# Altium integrated library Res-SMD_V2.IntLib: 2369 symbols (part 10 of 18)
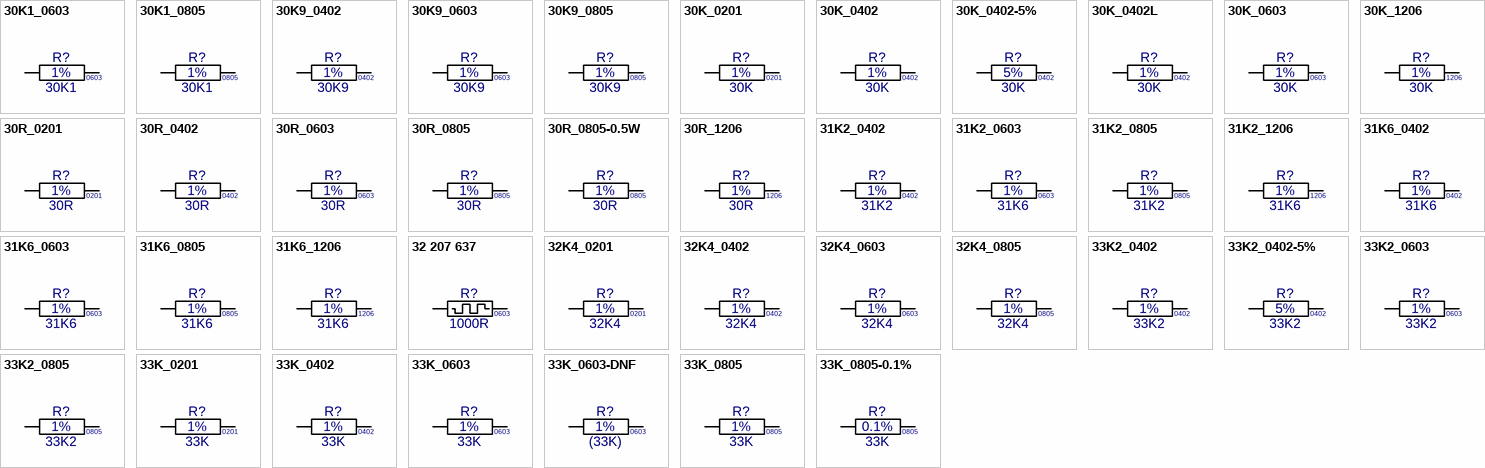
[diagram p68: symbols 30K1_0603 to 33K_0805-0.1%]

## 30K_1206
designator R?, comment value 30K  Tol: 1%  Text1: 1206  (hidden comment: 30K_R1206_1%)
Resistor Chip SMD; Manufacturer: Various; Part Number: 30K 1206 1%; Watt: 250mW; Package: RESC1206X71N; EDM-PN: *; Text2: *; Reutech PN: *; SAAB PN: *; DCE Part No: *
footprint RESC1206X71N (Chip Resistor, 1206, 2-Leads, Body 3.2x1.6mm, IPC Medium Density)
pins: 1, 2

## 30R_0201
designator R?, comment value 30R  Tol: 1%  Text1: 0201  (hidden comment: 30R_R0201_1%)
Resistor Chip SMD; Manufacturer: Various; Part Number: 30R 0201 1%; Watt: 31mW; Package: RESC0201X33N; EDM-PN: *; Text2: *; Reutech PN: *; SAAB PN: *; DCE Part No: *
footprint RESC0201X33N (Chip Resistor, 0201, 2-Leads, Body 0.6x0.3mm, IPC Medium Density)
pins: 1, 2

## 30R_0402
designator R?, comment value 30R  Tol: 1%  Text1: 0402  (hidden comment: 30R_R0402_1%)
Resistor Chip SMD; Manufacturer: Various; Part Number: 30R 0402 1%; Watt: 63mW; Package: RESC0402X40N; EDM-PN: *; Text2: *; Reutech PN: *; SAAB PN: *; DCE Part No: *
footprint RESC0402X40N (Chip Resistor, 0402, 2-Leads, Body 1.1x0.5mm, IPC Medium Density)
pins: 1, 2

## 30R_0603
designator R?, comment value 30R  Tol: 1%  Text1: 0603  (hidden comment: 30R_R0603_1%)
Resistor Chip SMD; Manufacturer: Various; Part Number: 30R 0603 1%; Watt: 100mW; Package: RESC0603X60N; EDM-PN: *; Text2: *; Reutech PN: *; SAAB PN: *; DCE Part No: *
footprint RESC0603X60N (Chip Resistor, 0603, 2-Leads, Body 1.6x0.8mm, IPC Medium Density)
pins: 1, 2

## 30R_0805
designator R?, comment value 30R  Tol: 1%  Text1: 0805  (hidden comment: 30R_R0805_1%)
Resistor Chip SMD; Manufacturer: Various; Part Number: 30R 0805 1%; Watt: 125mW; Package: RESC0805X65N; EDM-PN: *; Text2: *; Reutech PN: *; SAAB PN: *; DCE Part No: *
footprint RESC0805X65N (Chip Resistor, 0805, 2-Leads, Body 2.0x1.3mm, IPC Medium Density)
pins: 1, 2

## 30R_0805-0.5W
designator R?, comment value 30R  Tol: 1%  Text1: 0805  (hidden comment: 30R_R0805_1%-0.5W)
Resistor Chip SMD 0.5W; Manufacturer: Various; Part Number: 30R 0805 1% 0.5W; Watt: 500mW; Package: RESC0805X65N; EDM-PN: *; Text2: *; Reutech PN: *; SAAB PN: *; DCE Part No: *
footprint RESC0805X65N (Chip Resistor, 0805, 2-Leads, Body 2.0x1.3mm, IPC Medium Density)
pins: 1, 2

## 30R_1206
designator R?, comment value 30R  Tol: 1%  Text1: 1206  (hidden comment: 30R_R1206_1%)
Resistor Chip SMD; Manufacturer: Various; Part Number: 30R 1206 1%; Watt: 250mW; Package: RESC1206X71N; EDM-PN: *; Text2: *; Reutech PN: *; SAAB PN: *; DCE Part No: *
footprint RESC1206X71N (Chip Resistor, 1206, 2-Leads, Body 3.2x1.6mm, IPC Medium Density)
pins: 1, 2

## 31K2_0402
designator R?, comment value 31K2  Tol: 1%  Text1: 0402  (hidden comment: 31K2_R0402_1%)
Resistor Chip SMD; Manufacturer: Various; Part Number: 31K2 0402 1%; Watt: 63mW; Package: RESC0402X40N; EDM-PN: *; Text2: *; Reutech PN: *; SAAB PN: *; DCE Part No: *
footprint RESC0402X40N (Chip Resistor, 0402, 2-Leads, Body 1.1x0.5mm, IPC Medium Density)
pins: 1, 2

## 31K2_0603
designator R?, comment value 31K6  Tol: 1%  Text1: 0603  (hidden comment: 31K2_R0603_1%)
Resistor Chip SMD; Manufacturer: Various; Part Number: 31K6 0603 1%; Watt: 100mW; Package: RESC0603X60N; EDM-PN: *; Text2: *; Reutech PN: *; SAAB PN: *; DCE Part No: *
footprint RESC0603X60N (Chip Resistor, 0603, 2-Leads, Body 1.6x0.8mm, IPC Medium Density)
pins: 1, 2

## 31K2_0805
designator R?, comment value 31K2  Tol: 1%  Text1: 0805  (hidden comment: 31K2_R0805_1%)
Resistor Chip SMD; Manufacturer: Various; Part Number: 31K2 0805 1%; Watt: 125mW; Package: RESC0805X65N; EDM-PN: *; Text2: *; Reutech PN: *; SAAB PN: *; DCE Part No: *
footprint RESC0805X65N (Chip Resistor, 0805, 2-Leads, Body 2.0x1.3mm, IPC Medium Density)
pins: 1, 2

## 31K2_1206
designator R?, comment value 31K6  Tol: 1%  Text1: 1206  (hidden comment: 31K2_R1206_1%)
Resistor Chip SMD; Manufacturer: Various; Part Number: 31K6 1206 1%; Watt: 250mW; Package: RESC1206X71N; EDM-PN: *; Text2: *; Reutech PN: *; SAAB PN: *; DCE Part No: *
footprint RESC1206X71N (Chip Resistor, 1206, 2-Leads, Body 3.2x1.6mm, IPC Medium Density)
pins: 1, 2

## 31K6_0402
designator R?, comment value 31K6  Tol: 1%  Text1: 0402  (hidden comment: 31K6_R0402_1%)
Resistor Chip SMD; Manufacturer: Various; Part Number: 31K6 0402 1%; Watt: 63mW; Package: RESC0402X40N; EDM-PN: *; Text2: *; Reutech PN: *; SAAB PN: *; DCE Part No: *
footprint RESC0402X40N (Chip Resistor, 0402, 2-Leads, Body 1.1x0.5mm, IPC Medium Density)
pins: 1, 2

## 31K6_0603
designator R?, comment value 31K6  Tol: 1%  Text1: 0603  (hidden comment: 31K6_R0603_1%)
Resistor Chip SMD; Manufacturer: Various; Part Number: 31K6 0603 1%; Watt: 100mW; Package: RESC0603X60N; EDM-PN: *; Text2: *; Reutech PN: *; SAAB PN: *; DCE Part No: *
footprint RESC0603X60N (Chip Resistor, 0603, 2-Leads, Body 1.6x0.8mm, IPC Medium Density)
pins: 1, 2

## 31K6_0805
designator R?, comment value 31K6  Tol: 1%  Text1: 0805  (hidden comment: 31K6_R0805_1%)
Resistor Chip SMD; Manufacturer: Various; Part Number: 31K6 0805 1%; Watt: 125mW; Package: RESC0805X65N; EDM-PN: *; Text2: *; Reutech PN: *; SAAB PN: *; DCE Part No: *
footprint RESC0805X65N (Chip Resistor, 0805, 2-Leads, Body 2.0x1.3mm, IPC Medium Density)
pins: 1, 2

## 31K6_1206
designator R?, comment value 31K6  Tol: 1%  Text1: 1206  (hidden comment: 31K6_R1206_1%)
Resistor Chip SMD; Manufacturer: Various; Part Number: 31K6 1206 1%; Watt: 250mW; Package: RESC1206X71N; EDM-PN: *; Text2: *; Reutech PN: *; SAAB PN: *; DCE Part No: *
footprint RESC1206X71N (Chip Resistor, 1206, 2-Leads, Body 3.2x1.6mm, IPC Medium Density)
pins: 1, 2

## 32 207 637
designator R?  value 1000R  Text1: 0603  (hidden comment: 32 207 637)
Platinum Resistance Temperature Detector; Manufacturer: Heraeus; Watt: *; Part Number: 32 207 637; Package: SMD0603-TEMP; EDM-PN: *; Text2: *; Reutech PN: *; SAAB PN: *; Tol: *; DCE Part No: *
footprint SMD0603-TEMP (Chip Resistor, 0603, 2-Leads, Body 1.6x0.8mm, IPC Medium Density)
pins: 1, 2

## 32K4_0201
designator R?, comment value 32K4  Tol: 1%  Text1: 0201  (hidden comment: 32K4_R0201_1%)
Resistor Chip SMD; Manufacturer: Various; Part Number: 32K4 0201 1%; Watt: 31mW; Package: RESC0201X33N; EDM-PN: *; Text2: *; Reutech PN: *; SAAB PN: *; DCE Part No: *
footprint RESC0201X33N (Chip Resistor, 0201, 2-Leads, Body 0.6x0.3mm, IPC Medium Density)
pins: 1, 2

## 32K4_0402
designator R?, comment value 32K4  Tol: 1%  Text1: 0402  (hidden comment: 32K4_R0402_1%)
Resistor Chip SMD; Manufacturer: Various; Part Number: 32K4 0402 1%; Watt: 63mW; Package: RESC0402X40N; EDM-PN: *; Text2: *; Reutech PN: *; SAAB PN: *; DCE Part No: *
footprint RESC0402X40N (Chip Resistor, 0402, 2-Leads, Body 1.1x0.5mm, IPC Medium Density)
pins: 1, 2

## 32K4_0603
designator R?, comment value 32K4  Tol: 1%  Text1: 0603  (hidden comment: 32K4_R0603_1%)
Resistor Chip SMD; Manufacturer: Various; Part Number: 32K4 0603 1%; Watt: 100mW; Package: RESC0603X60N; EDM-PN: *; Text2: *; Reutech PN: *; SAAB PN: *; DCE Part No: *
footprint RESC0603X60N (Chip Resistor, 0603, 2-Leads, Body 1.6x0.8mm, IPC Medium Density)
pins: 1, 2

## 32K4_0805
designator R?, comment value 32K4  Tol: 1%  Text1: 0805  (hidden comment: 32K4_R0805_1%)
Resistor Chip SMD; Manufacturer: Various; Part Number: 32K4 0805 1%; Watt: 125mW; Package: RESC0805X65N; EDM-PN: *; Text2: *; Reutech PN: *; SAAB PN: *; DCE Part No: *
footprint RESC0805X65N (Chip Resistor, 0805, 2-Leads, Body 2.0x1.3mm, IPC Medium Density)
pins: 1, 2

## 33K2_0402
designator R?, comment value 33K2  Tol: 1%  Text1: 0402  (hidden comment: 33K2_R0402_1%)
Resistor Chip SMD; Manufacturer: Various; Part Number: 33K2 0402 1%; Watt: 63mW; Package: RESC0402X40N; EDM-PN: *; Text2: *; Reutech PN: *; SAAB PN: *; DCE Part No: *
footprint RESC0402X40N (Chip Resistor, 0402, 2-Leads, Body 1.1x0.5mm, IPC Medium Density)
pins: 1, 2

## 33K2_0402-5%
designator R?, comment value 33K2  Tol: 5%  Text1: 0402  (hidden comment: 33K2_R0402_5%)
Resistor Chip SMD; Manufacturer: Various; Part Number: 33K2 0402 5%; Watt: 63mW; Package: RESC0402X40N; EDM-PN: *; Text2: *; Reutech PN: *; SAAB PN: *; DCE Part No: *
footprint RESC0402X40N (Chip Resistor, 0402, 2-Leads, Body 1.1x0.5mm, IPC Medium Density)
pins: 1, 2

## 33K2_0603
designator R?, comment value 33K2  Tol: 1%  Text1: 0603  (hidden comment: 33K2_R0603_1%)
Resistor Chip SMD; Manufacturer: Various; Part Number: 33K2 0603 1%; Watt: 100mW; Package: RESC0603X60N; EDM-PN: *; Text2: *; Reutech PN: *; SAAB PN: *; DCE Part No: *
footprint RESC0603X60N (Chip Resistor, 0603, 2-Leads, Body 1.6x0.8mm, IPC Medium Density)
pins: 1, 2

## 33K2_0805
designator R?, comment value 33K2  Tol: 1%  Text1: 0805  (hidden comment: 33K2_R0805_1%)
Resistor Chip SMD; Manufacturer: Various; Part Number: 33K2 0805 1%; Watt: 125mW; Package: RESC0805X65N; EDM-PN: *; Text2: *; Reutech PN: *; SAAB PN: *; DCE Part No: *
footprint RESC0805X65N (Chip Resistor, 0805, 2-Leads, Body 2.0x1.3mm, IPC Medium Density)
pins: 1, 2

## 33K_0201
designator R?, comment value 33K  Tol: 1%  Text1: 0201  (hidden comment: 33K_R0201_1%)
Resistor Chip SMD; Manufacturer: Various; Part Number: 33K 0201 1%; Watt: 31mW; Package: RESC0201X33N; EDM-PN: *; Text2: *; Reutech PN: *; SAAB PN: *; DCE Part No: *
footprint RESC0201X33N (Chip Resistor, 0201, 2-Leads, Body 0.6x0.3mm, IPC Medium Density)
pins: 1, 2

## 33K_0402
designator R?, comment value 33K  Tol: 1%  Text1: 0402  (hidden comment: 33K_R0402_1%)
Resistor Chip SMD; Manufacturer: Various; Part Number: 33K 0402 1%; Watt: 63mW; Package: RESC0402X40N; EDM-PN: *; Text2: *; Reutech PN: *; SAAB PN: *; DCE Part No: *
footprint RESC0402X40N (Chip Resistor, 0402, 2-Leads, Body 1.1x0.5mm, IPC Medium Density)
pins: 1, 2

## 33K_0603
designator R?, comment value 33K  Tol: 1%  Text1: 0603  (hidden comment: 33K_R0603_1%)
Resistor Chip SMD; Manufacturer: Various; Part Number: 33K 0603 1%; Watt: 100mW; EDM-PN: RES234; Package: RESC0603X60N; Text2: *; Reutech PN: 5905-93-3302; SAAB PN: *; DCE Part No: *
footprint RESC0603X60N (Chip Resistor, 0603, 2-Leads, Body 1.6x0.8mm, IPC Medium Density)
pins: 1, 2

## 33K_0603-DNF
designator R?, comment value (33K)  Tol: 1%  Text1: 0603  (hidden comment: 33K_R0603_1%)
Resistor Chip SMD - Do not Fit; Manufacturer: Various; Part Number: DNF - 33K 0603 1%; Watt: 100mW; EDM-PN: RES234; Package: RESC0603X60N; Text2: *; Reutech PN: 5905-93-3302; SAAB PN: *; DCE Part No: *
footprint RESC0603X60N (Chip Resistor, 0603, 2-Leads, Body 1.6x0.8mm, IPC Medium Density)
pins: 1, 2

## 33K_0805
designator R?, comment value 33K  Tol: 1%  Text1: 0805  (hidden comment: 33K_R0805_1%)
Resistor Chip SMD; Manufacturer: Various; Part Number: 33K 0805 1%; Watt: 125mW; Package: RESC0805X65N; EDM-PN: *; Text2: *; Reutech PN: *; SAAB PN: *; DCE Part No: *
footprint RESC0805X65N (Chip Resistor, 0805, 2-Leads, Body 2.0x1.3mm, IPC Medium Density)
pins: 1, 2

## 33K_0805-0.1%
designator R?, comment value 33K  Tol: 0.1%  Text1: 0805  (hidden comment: 33K_R0805_0.1%)
Resistor Chip SMD; Manufacturer: Various; Part Number: 33K 0805 0.1%; Watt: 125mW; Package: RESC0805X65N; EDM-PN: *; Text2: *; Reutech PN: *; SAAB PN: *; DCE Part No: *
footprint RESC0805X65N (Chip Resistor, 0805, 2-Leads, Body 2.0x1.3mm, IPC Medium Density)
pins: 1, 2

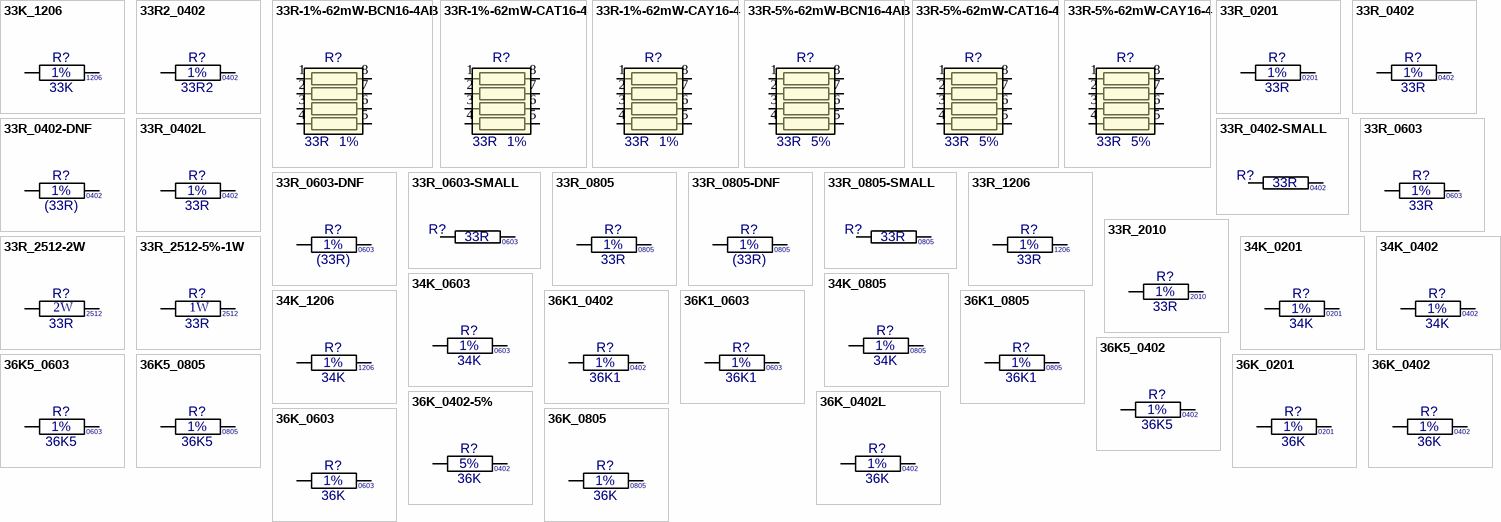
[diagram p31: symbols 33K_1206 to 36K_0805]

## 33K_1206
designator R?, comment value 33K  Tol: 1%  Text1: 1206  (hidden comment: 33K_R1206_1%)
Resistor Chip SMD; Manufacturer: Various; Part Number: 33K 1206 1%; Watt: 250mW; Package: RESC1206X71N; EDM-PN: *; Text2: *; Reutech PN: *; SAAB PN: *; DCE Part No: *
footprint RESC1206X71N (Chip Resistor, 1206, 2-Leads, Body 3.2x1.6mm, IPC Medium Density)
pins: 1, 2

## 33R2_0402
designator R?, comment value 33R2  Tol: 1%  Text1: 0402  (hidden comment: 33R2_R0402_1%)
Resistor Chip SMD; Manufacturer: Various; Part Number: 33R2 0402 1%; Watt: 63mW; Package: RESC0402X40N; EDM-PN: *; Text2: *; Reutech PN: *; SAAB PN: *; DCE Part No: *
footprint RESC0402X40N (Chip Resistor, 0402, 2-Leads, Body 1.1x0.5mm, IPC Medium Density)
pins: 1, 2

## 33R-1%-62mW-BCN16-4AB
designator R?, comment value 33R  Tol: 1%  (hidden comment: 33R-1%-62mW-BCN16-4AB-H)
Resistor Chip Array; Manufacturer: Bi Tech; Part Number: BCN164ABI-330F; Watt: 62mW; Package: BCN16-4AB; EDM-PN: *; Text2: *; Text1: *; Reutech PN: *; SAAB PN: *; DCE Part No: *
footprint BCN16-4AB (BCN 16 4 AB 1.6x3.2mm)
pins: 1, 2, 3, 4, 5, 6, 7, 8

## 33R-1%-62mW-CAT16-4
designator R?  value 33R  Tol: 1%  (hidden comment: 33R-1%-62mW-CAT16-4)
Resistor Chip Array; Manufacturer: Bourns; Part Number: CAT16-330F4LF; Watt: 62mW; Package: CAT16-4; EDM-PN: *; Text2: *; Text1: *; Reutech PN: *; SAAB PN: *; DCE Part No: *
footprint CAT16-4 (Res Network 1.6x3.2mm)
pins: 1, 2, 3, 4, 5, 6, 7, 8

## 33R-1%-62mW-CAY16-4
designator R?  value 33R  Tol: 1%  (hidden comment: 33R-1%-62mW-CAY16-4)
Resistor Chip Array; Manufacturer: Bourns; Part Number: CAY16-330F4LF; Watt: 62mW; Package: CAY16-4; EDM-PN: *; Text2: *; Text1: *; Reutech PN: *; SAAB PN: *; DCE Part No: *
footprint CAY16-4 (Res Network 1.6x3.2mm)
pins: 1, 2, 3, 4, 5, 6, 7, 8

## 33R-5%-62mW-BCN16-4AB
designator R?, comment value 33R  Tol: 5%  (hidden comment: 33R-5%-62mW-BCN16-4AB-H)
Resistor Chip Array; Manufacturer: Bi Tech; Part Number: BCN164ABI-330J; Watt: 62mW; Package: BCN16-4AB; EDM-PN: *; Text2: *; Text1: *; Reutech PN: *; SAAB PN: *; DCE Part No: *
footprint BCN16-4AB (BCN 16 4 AB 1.6x3.2mm)
pins: 1, 2, 3, 4, 5, 6, 7, 8

## 33R-5%-62mW-CAT16-4
designator R?  value 33R  Tol: 5%  (hidden comment: 33R-5%-62mW-CAT16-4)
Resistor Chip Array; Manufacturer: Bourns; Part Number: CAT16-330J4LF; Watt: 62mW; Package: CAT16-4; EDM-PN: *; Text2: *; Text1: *; Reutech PN: *; SAAB PN: *; DCE Part No: *
footprint CAT16-4 (Res Network 1.6x3.2mm)
pins: 1, 2, 3, 4, 5, 6, 7, 8

## 33R-5%-62mW-CAY16-4
designator R?  value 33R  Tol: 5%  (hidden comment: 33R-5%-62mW-CAY16-4)
Resistor Chip Array; Manufacturer: Bourns; Part Number: CAY16-330J4LF; Watt: 62mW; Package: CAY16-4; EDM-PN: *; Text2: *; Text1: *; Reutech PN: *; SAAB PN: *; DCE Part No: *
footprint CAY16-4 (Res Network 1.6x3.2mm)
pins: 1, 2, 3, 4, 5, 6, 7, 8

## 33R_0201
designator R?, comment value 33R  Tol: 1%  Text1: 0201  (hidden comment: 33R_R0201_1%)
Resistor Chip SMD; Manufacturer: Various; Part Number: 33R 0201 1%; Watt: 31mW; Package: RESC0201X33N; EDM-PN: *; Text2: *; Reutech PN: *; SAAB PN: *; DCE Part No: *
footprint RESC0201X33N (Chip Resistor, 0201, 2-Leads, Body 0.6x0.3mm, IPC Medium Density)
pins: 1, 2

## 33R_0402
designator R?, comment value 33R  Tol: 1%  Text1: 0402  (hidden comment: 33R_R0402_1%)
Resistor Chip SMD; Manufacturer: Various; Part Number: 33R 0402 1%; Watt: 63mW; EDM-PN: RES892; Package: RESC0402X40N; Text2: *; Reutech PN: *; SAAB PN: *; DCE Part No: *
footprint RESC0402X40N (Chip Resistor, 0402, 2-Leads, Body 1.1x0.5mm, IPC Medium Density)
pins: 1, 2

## 33R_0402-DNF
designator R?, comment value (33R)  Tol: 1%  Text1: 0402  (hidden comment: 33R_R0402_1%-DNF)
Resistor Chip SMD - Do not Fit; Manufacturer: Various; Part Number: DNF - 33R 0402 1%; Watt: 63mW; EDM-PN: RES892; Package: RESC0402X40N; Text2: *; Reutech PN: *; SAAB PN: *; DCE Part No: *
footprint RESC0402X40N (Chip Resistor, 0402, 2-Leads, Body 1.1x0.5mm, IPC Medium Density)
pins: 1, 2

## 33R_0402-SMALL
designator R?, comment value 33R  Text1: 0402  (hidden comment: 33R_R0402_1%)
Resistor Chip SMD; Manufacturer: Various; Part Number: 33R 0402 1%; Watt: 63mW; EDM-PN: RES892; Tol: 1%; Package: RESC0402X40N; Text2: *; Reutech PN: *; SAAB PN: *; DCE Part No: *
footprint RESC0402X40N (Chip Resistor, 0402, 2-Leads, Body 1.1x0.5mm, IPC Medium Density)
pins: 1, 2

## 33R_0402L
designator R?, comment value 33R  Tol: 1%  Text1: 0402  (hidden comment: 33R_R0402_1%)
Resistor Chip SMD; Manufacturer: Various; Part Number: 33R 0402 1%; Watt: 63mW; EDM-PN: RES892; Package: RESC0402X40L; Text2: *; Reutech PN: *; SAAB PN: *; DCE Part No: *
footprint RESC0402X40L (Chip Resistor, 0402, 2-Leads, Body 1.1x0.5mm, IPC High Density)
pins: 1, 2

## 33R_0603
designator R?, comment value 33R  Tol: 1%  Text1: 0603  (hidden comment: 33R_R0603_1%)
Resistor Chip SMD; Manufacturer: Various; Part Number: 33R 0603 1%; Watt: 100mW; EDM-PN: RES420; Package: RESC0603X60N; Text2: *; Reutech PN: 5905-93-0033; SAAB PN: *; DCE Part No: *
footprint RESC0603X60N (Chip Resistor, 0603, 2-Leads, Body 1.6x0.8mm, IPC Medium Density)
pins: 1, 2

## 33R_0603-DNF
designator R?, comment value (33R)  Tol: 1%  Text1: 0603  (hidden comment: 33R_R0603_1%-DNF)
Resistor Chip SMD - Do not Fit; Manufacturer: Various; Part Number: DNF - 33R 0603 1%; Watt: 100mW; EDM-PN: RES420; Package: RESC0603X60N; Text2: *; Reutech PN: *; SAAB PN: *; DCE Part No: *
footprint RESC0603X60N (Chip Resistor, 0603, 2-Leads, Body 1.6x0.8mm, IPC Medium Density)
pins: 1, 2

## 33R_0603-SMALL
designator R?, comment value 33R  Text1: 0603  (hidden comment: 33R_R0603_1%)
Resistor Chip SMD; Manufacturer: Various; Part Number: 33R 0603 1%; Watt: 100mW; Tol: 1%; Package: RESC0603X60N; EDM-PN: *; Text2: *; Reutech PN: *; SAAB PN: *; DCE Part No: *
footprint RESC0603X60N (Chip Resistor, 0603, 2-Leads, Body 1.6x0.8mm, IPC Medium Density)
pins: 1, 2

## 33R_0805
designator R?, comment value 33R  Tol: 1%  Text1: 0805  (hidden comment: 33R_R0805_1%)
Resistor Chip SMD; Manufacturer: Various; Part Number: 33R 0805 1%; Watt: 125mW; EDM-PN: RES96; SAAB PN: 1ACF00171AEA; Package: RESC0805X65N; Text2: *; Reutech PN: *; DCE Part No: *
footprint RESC0805X65N (Chip Resistor, 0805, 2-Leads, Body 2.0x1.3mm, IPC Medium Density)
pins: 1, 2

## 33R_0805-DNF
designator R?, comment value (33R)  Tol: 1%  Text1: 0805  (hidden comment: 33R_R0805_1%-DNF)
Resistor Chip SMD - Do not Fit; Manufacturer: Various; Part Number: DNF - 33R 0805 1%; Watt: 125mW; EDM-PN: RES96; SAAB PN: 1ACF00171AEA; Package: RESC0805X65N; Text2: *; Reutech PN: *; DCE Part No: *
footprint RESC0805X65N (Chip Resistor, 0805, 2-Leads, Body 2.0x1.3mm, IPC Medium Density)
pins: 1, 2

## 33R_0805-SMALL
designator R?, comment value 33R  Text1: 0805  (hidden comment: 33R_R0805_1%)
Resistor Chip SMD; Manufacturer: Various; Part Number: 33R 0805 1%; Watt: 125mW; EDM-PN: RES96; Tol: 1%; Package: RESC0805X65N; Text2: *; Reutech PN: *; SAAB PN: *; DCE Part No: *
footprint RESC0805X65N (Chip Resistor, 0805, 2-Leads, Body 2.0x1.3mm, IPC Medium Density)
pins: 1, 2

## 33R_1206
designator R?, comment value 33R  Tol: 1%  Text1: 1206  (hidden comment: 33R_R1206_1%)
Resistor Chip SMD; Manufacturer: Various; Part Number: 33R 1206 1%; Watt: 250mW; Package: RESC1206X71N; EDM-PN: *; Text2: *; Reutech PN: *; SAAB PN: *; DCE Part No: *
footprint RESC1206X71N (Chip Resistor, 1206, 2-Leads, Body 3.2x1.6mm, IPC Medium Density)
pins: 1, 2

## 33R_2010
designator R?, comment value 33R  Tol: 1%  Text1: 2010  (hidden comment: 33R_R2010_1%)
Resistor Chip SMD; Manufacturer: Various; Part Number: 33R 2010 1%; Watt: 500mW; Package: RESC2010X71N; EDM-PN: *; Text2: *; Reutech PN: *; SAAB PN: *; DCE Part No: *
footprint RESC2010X71N (Chip Resistor, 2010, 2-Leads, Body 5.0x2.5mm, IPC Medium Density)
pins: 1, 2

## 33R_2512-2W
designator R?, comment value 33R  Watt: 2W  Text1: 2512  (hidden comment: 33R_R2512)
Resistor Thick Film; Manufacturer: TE Connectivity; Part Number: 1-2176070-3; Tol: 1%; Package: RESC2512X71N; EDM-PN: *; Text2: *; Reutech PN: *; SAAB PN: *; DCE Part No: *
footprint RESC2512X71N (Chip Resistor, 2512, 2-Leads, Body 6.3x3.2mm, IPC Medium Density)
pins: 1, 2

## 33R_2512-5%-1W
designator R?, comment value 33R  Watt: 1W  Text1: 2512  (hidden comment: 33R_R2512 5% 1W)
Resistor Thick Film; Manufacturer: Various; Part Number: 33R 2512 5% 1W; Package: RESC2512X71N; EDM-PN: *; Text2: *; Tol: 5%; Reutech PN: *; SAAB PN: *; DCE Part No: *
footprint RESC2512X71N (Chip Resistor, 2512, 2-Leads, Body 6.3x3.2mm, IPC Medium Density)
pins: 1, 2

## 34K_0201
designator R?, comment value 34K  Tol: 1%  Text1: 0201  (hidden comment: 34K_R0201_1%)
Resistor Chip SMD; Manufacturer: Various; Part Number: 34K 0201 1%; Watt: 31mW; Package: RESC0201X33N; EDM-PN: *; Text2: *; Reutech PN: *; SAAB PN: *; DCE Part No: *
footprint RESC0201X33N (Chip Resistor, 0201, 2-Leads, Body 0.6x0.3mm, IPC Medium Density)
pins: 1, 2

## 34K_0402
designator R?, comment value 34K  Tol: 1%  Text1: 0402  (hidden comment: 34K_R0402_1%)
Resistor Chip SMD; Manufacturer: Various; Part Number: 34K 0402 1%; Watt: 63mW; Package: RESC0402X40N; EDM-PN: *; Text2: *; Reutech PN: *; SAAB PN: *; DCE Part No: *
footprint RESC0402X40N (Chip Resistor, 0402, 2-Leads, Body 1.1x0.5mm, IPC Medium Density)
pins: 1, 2

## 34K_0603
designator R?, comment value 34K  Tol: 1%  Text1: 0603  (hidden comment: 34K_R0603_1%)
Resistor Chip SMD; Manufacturer: Various; Part Number: 34K 0603 1%; Watt: 100mW; Package: RESC0603X60N; EDM-PN: *; Text2: *; Reutech PN: *; SAAB PN: *; DCE Part No: *
footprint RESC0603X60N (Chip Resistor, 0603, 2-Leads, Body 1.6x0.8mm, IPC Medium Density)
pins: 1, 2

## 34K_0805
designator R?, comment value 34K  Tol: 1%  Text1: 0805  (hidden comment: 34K_R0805_1%)
Resistor Chip SMD; Manufacturer: Various; Part Number: 34K 0805 1%; Watt: 125mW; Package: RESC0805X65N; EDM-PN: *; Text2: *; Reutech PN: *; SAAB PN: *; DCE Part No: *
footprint RESC0805X65N (Chip Resistor, 0805, 2-Leads, Body 2.0x1.3mm, IPC Medium Density)
pins: 1, 2

## 34K_1206
designator R?, comment value 34K  Tol: 1%  Text1: 1206  (hidden comment: 34K_R1206_1%)
Resistor Chip SMD; Manufacturer: Various; Part Number: 34K 1206 1%; Watt: 250mW; Package: RESC1206X71N; EDM-PN: *; Text2: *; Reutech PN: *; SAAB PN: *; DCE Part No: *
footprint RESC1206X71N (Chip Resistor, 1206, 2-Leads, Body 3.2x1.6mm, IPC Medium Density)
pins: 1, 2

## 36K1_0402
designator R?, comment value 36K1  Tol: 1%  Text1: 0402  (hidden comment: 36K1_R0402_1%)
Resistor Chip SMD; Manufacturer: Various; Part Number: 36K1 0402 1%; Watt: 63mW; Package: RESC0402X40N; EDM-PN: *; Text2: *; Reutech PN: *; SAAB PN: *; DCE Part No: *
footprint RESC0402X40N (Chip Resistor, 0402, 2-Leads, Body 1.1x0.5mm, IPC Medium Density)
pins: 1, 2

## 36K1_0603
designator R?, comment value 36K1  Tol: 1%  Text1: 0603  (hidden comment: 36K1_R0603_1%)
Resistor Chip SMD; Manufacturer: Various; Part Number: 36K1 0603 1%; Watt: 100mW; Package: RESC0603X60N; EDM-PN: *; Text2: *; Reutech PN: *; SAAB PN: *; DCE Part No: *
footprint RESC0603X60N (Chip Resistor, 0603, 2-Leads, Body 1.6x0.8mm, IPC Medium Density)
pins: 1, 2

## 36K1_0805
designator R?, comment value 36K1  Tol: 1%  Text1: 0805  (hidden comment: 36K1_R0805_1%)
Resistor Chip SMD; Manufacturer: Various; Part Number: 36K1 0805 1%; Watt: 125mW; Package: RESC0805X65N; EDM-PN: *; Text2: *; Reutech PN: *; SAAB PN: *; DCE Part No: *
footprint RESC0805X65N (Chip Resistor, 0805, 2-Leads, Body 2.0x1.3mm, IPC Medium Density)
pins: 1, 2

## 36K5_0402
designator R?, comment value 36K5  Tol: 1%  Text1: 0402  (hidden comment: 36K5_R0402_1%)
Resistor Chip SMD; Manufacturer: Various; Part Number: 36K5 0402 1%; Watt: 63mW; Package: RESC0402X40N; EDM-PN: *; Text2: *; Reutech PN: *; SAAB PN: *; DCE Part No: *
footprint RESC0402X40N (Chip Resistor, 0402, 2-Leads, Body 1.1x0.5mm, IPC Medium Density)
pins: 1, 2

## 36K5_0603
designator R?, comment value 36K5  Tol: 1%  Text1: 0603  (hidden comment: 36K5_R0603_1%)
Resistor Chip SMD; Manufacturer: Various; Part Number: 36K5 0603 1%; Watt: 100mW; Package: RESC0603X60N; EDM-PN: *; Text2: *; Reutech PN: *; SAAB PN: *; DCE Part No: *
footprint RESC0603X60N (Chip Resistor, 0603, 2-Leads, Body 1.6x0.8mm, IPC Medium Density)
pins: 1, 2

## 36K5_0805
designator R?, comment value 36K5  Tol: 1%  Text1: 0805  (hidden comment: 36K5_R0805_1%)
Resistor Chip SMD; Manufacturer: Various; Part Number: 36K5 0805 1%; Watt: 125mW; Package: RESC0805X65N; EDM-PN: *; Text2: *; Reutech PN: *; SAAB PN: *; DCE Part No: *
footprint RESC0805X65N (Chip Resistor, 0805, 2-Leads, Body 2.0x1.3mm, IPC Medium Density)
pins: 1, 2

## 36K_0201
designator R?, comment value 36K  Tol: 1%  Text1: 0201  (hidden comment: 36K_R0201_1%)
Resistor Chip SMD; Manufacturer: Various; Part Number: 36K 0201 1%; Watt: 31mW; Package: RESC0201X33N; EDM-PN: *; Text2: *; Reutech PN: *; SAAB PN: *; DCE Part No: *
footprint RESC0201X33N (Chip Resistor, 0201, 2-Leads, Body 0.6x0.3mm, IPC Medium Density)
pins: 1, 2

## 36K_0402
designator R?, comment value 36K  Tol: 1%  Text1: 0402  (hidden comment: 36K_R0402_1%)
Resistor Chip SMD; Manufacturer: Various; Part Number: 36K 0402 1%; DCE Part No: 8256; Watt: 63mW; Package: RESC0402X40N; EDM-PN: *; Text2: *; Reutech PN: *; SAAB PN: *
footprint RESC0402X40N (Chip Resistor, 0402, 2-Leads, Body 1.1x0.5mm, IPC Medium Density)
pins: 1, 2

## 36K_0402-5%
designator R?, comment value 36K  Tol: 5%  Text1: 0402  (hidden comment: 36K_R0402_5%)
Resistor Chip SMD; Manufacturer: Various; Part Number: 36K 0402 5%; Watt: 63mW; Package: RESC0402X40N; EDM-PN: *; Text2: *; Reutech PN: *; SAAB PN: *; DCE Part No: *
footprint RESC0402X40N (Chip Resistor, 0402, 2-Leads, Body 1.1x0.5mm, IPC Medium Density)
pins: 1, 2

## 36K_0402L
designator R?, comment value 36K  Tol: 1%  Text1: 0402  (hidden comment: 36K_R0402_1%)
Resistor Chip SMD; Manufacturer: Various; Part Number: 36K 0402 1%; DCE Part No: 8256; Watt: 63mW; Package: RESC0402X40L; EDM-PN: *; Text2: *; Reutech PN: *; SAAB PN: *
footprint RESC0402X40L (Chip Resistor, 0402, 2-Leads, Body 1.1x0.5mm, IPC High Density)
pins: 1, 2

## 36K_0603
designator R?, comment value 36K  Tol: 1%  Text1: 0603  (hidden comment: 36K_R0603_1%)
Resistor Chip SMD; Manufacturer: Various; Part Number: 36K 0603 1%; Watt: 100mW; Package: RESC0603X60N; EDM-PN: *; Text2: *; Reutech PN: 5905-93-3602; SAAB PN: *; DCE Part No: *
footprint RESC0603X60N (Chip Resistor, 0603, 2-Leads, Body 1.6x0.8mm, IPC Medium Density)
pins: 1, 2

## 36K_0805
designator R?, comment value 36K  Tol: 1%  Text1: 0805  (hidden comment: 36K_R0805_1%)
Resistor Chip SMD; Manufacturer: Various; Part Number: 36K 0805 1%; Watt: 125mW; Package: RESC0805X65N; EDM-PN: *; Text2: *; Reutech PN: *; SAAB PN: *; DCE Part No: *
footprint RESC0805X65N (Chip Resistor, 0805, 2-Leads, Body 2.0x1.3mm, IPC Medium Density)
pins: 1, 2

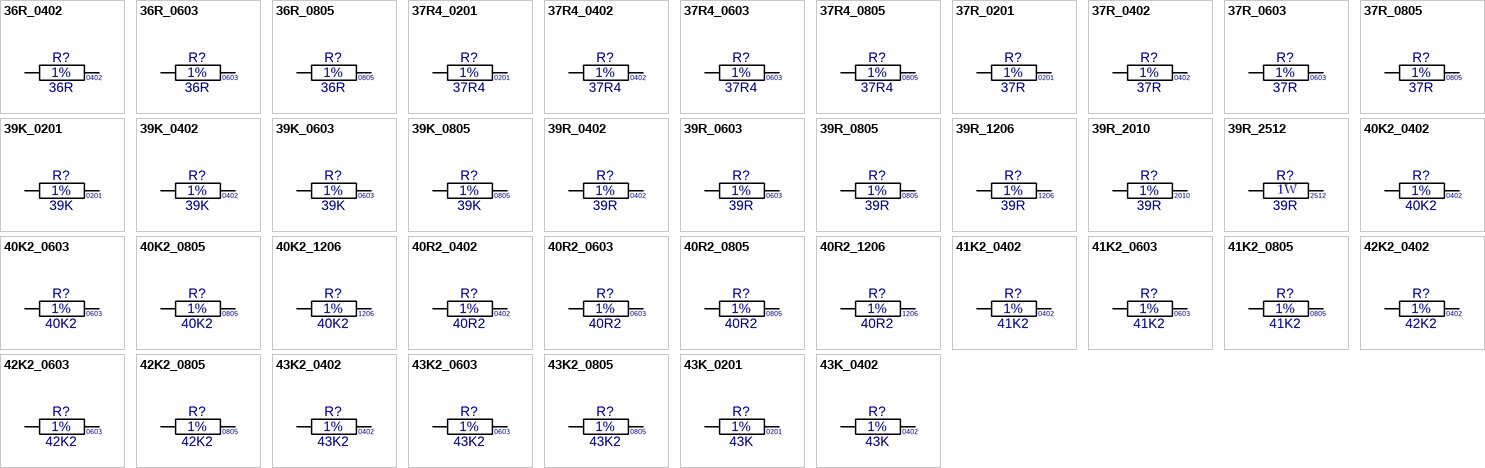
[diagram p32: symbols 36R_0402 to 43K_0402]

## 36R_0402
designator R?, comment value 36R  Tol: 1%  Text1: 0402  (hidden comment: 36R_R0402_1%)
Resistor Chip SMD; Manufacturer: Various; Part Number: 36R 0402 1%; Watt: 63mW; Package: RESC0402X40N; EDM-PN: *; Text2: *; Reutech PN: *; SAAB PN: *; DCE Part No: *
footprint RESC0402X40N (Chip Resistor, 0402, 2-Leads, Body 1.1x0.5mm, IPC Medium Density)
pins: 1, 2

## 36R_0603
designator R?, comment value 36R  Tol: 1%  Text1: 0603  (hidden comment: 36R_R0603_1%)
Resistor Chip SMD; Manufacturer: Various; Part Number: 36R 0603 1%; Watt: 100mW; Package: RESC0603X60N; EDM-PN: *; Text2: *; Reutech PN: *; SAAB PN: *; DCE Part No: *
footprint RESC0603X60N (Chip Resistor, 0603, 2-Leads, Body 1.6x0.8mm, IPC Medium Density)
pins: 1, 2

## 36R_0805
designator R?, comment value 36R  Tol: 1%  Text1: 0805  (hidden comment: 36R_R0805_1%)
Resistor Chip SMD; Manufacturer: Various; Part Number: 36R 0805 1%; Watt: 125mW; Package: RESC0805X65N; EDM-PN: *; Text2: *; Reutech PN: *; SAAB PN: *; DCE Part No: *
footprint RESC0805X65N (Chip Resistor, 0805, 2-Leads, Body 2.0x1.3mm, IPC Medium Density)
pins: 1, 2

## 37R4_0201
designator R?, comment value 37R4  Tol: 1%  Text1: 0201  (hidden comment: 37R4_R0201_1%)
Resistor Chip SMD; Manufacturer: Various; Part Number: 37R4 0201 1%; Watt: 31mW; Package: RESC0201X33N; EDM-PN: *; Text2: *; Reutech PN: *; SAAB PN: *; DCE Part No: *
footprint RESC0201X33N (Chip Resistor, 0201, 2-Leads, Body 0.6x0.3mm, IPC Medium Density)
pins: 1, 2

## 37R4_0402
designator R?, comment value 37R4  Tol: 1%  Text1: 0402  (hidden comment: 37R4_R0402_1%)
Resistor Chip SMD; Manufacturer: Various; Part Number: 37R4 0402 1%; Watt: 63mW; Package: RESC0402X40N; EDM-PN: *; Text2: *; Reutech PN: *; SAAB PN: *; DCE Part No: *
footprint RESC0402X40N (Chip Resistor, 0402, 2-Leads, Body 1.1x0.5mm, IPC Medium Density)
pins: 1, 2

## 37R4_0603
designator R?, comment value 37R4  Tol: 1%  Text1: 0603  (hidden comment: 37R4_R0603_1%)
Resistor Chip SMD; Manufacturer: Various; Part Number: 37R4 0603 1%; Watt: 100mW; Package: RESC0603X60N; EDM-PN: *; Text2: *; Reutech PN: *; SAAB PN: *; DCE Part No: *
footprint RESC0603X60N (Chip Resistor, 0603, 2-Leads, Body 1.6x0.8mm, IPC Medium Density)
pins: 1, 2

## 37R4_0805
designator R?, comment value 37R4  Tol: 1%  Text1: 0805  (hidden comment: 37R4_R0805_1%)
Resistor Chip SMD; Manufacturer: Various; Part Number: 37R4 0805 1%; Watt: 125mW; Package: RESC0805X65N; EDM-PN: *; Text2: *; Reutech PN: *; SAAB PN: *; DCE Part No: *
footprint RESC0805X65N (Chip Resistor, 0805, 2-Leads, Body 2.0x1.3mm, IPC Medium Density)
pins: 1, 2

## 37R_0201
designator R?, comment value 37R  Tol: 1%  Text1: 0201  (hidden comment: 37R_R0201_1%)
Resistor Chip SMD; Manufacturer: Various; Part Number: 37R 0201 1%; Watt: 31mW; Package: RESC0201X33N; EDM-PN: *; Text2: *; Reutech PN: *; SAAB PN: *; DCE Part No: *
footprint RESC0201X33N (Chip Resistor, 0201, 2-Leads, Body 0.6x0.3mm, IPC Medium Density)
pins: 1, 2

## 37R_0402
designator R?, comment value 37R  Tol: 1%  Text1: 0402  (hidden comment: 37R_R0402_1%)
Resistor Chip SMD; Manufacturer: Various; Part Number: 37R 0402 1%; Watt: 63mW; Package: RESC0402X40N; EDM-PN: *; Text2: *; Reutech PN: *; SAAB PN: *; DCE Part No: *
footprint RESC0402X40N (Chip Resistor, 0402, 2-Leads, Body 1.1x0.5mm, IPC Medium Density)
pins: 1, 2

## 37R_0603
designator R?, comment value 37R  Tol: 1%  Text1: 0603  (hidden comment: 37R_R0603_1%)
Resistor Chip SMD; Manufacturer: Various; Part Number: 37R 0603 1%; Watt: 100mW; Package: RESC0603X60N; EDM-PN: *; Text2: *; Reutech PN: *; SAAB PN: *; DCE Part No: *
footprint RESC0603X60N (Chip Resistor, 0603, 2-Leads, Body 1.6x0.8mm, IPC Medium Density)
pins: 1, 2

## 37R_0805
designator R?, comment value 37R  Tol: 1%  Text1: 0805  (hidden comment: 37R_R0805_1%)
Resistor Chip SMD; Manufacturer: Various; Part Number: 37R 0805 1%; Watt: 125mW; Package: RESC0805X65N; EDM-PN: *; Text2: *; Reutech PN: *; SAAB PN: *; DCE Part No: *
footprint RESC0805X65N (Chip Resistor, 0805, 2-Leads, Body 2.0x1.3mm, IPC Medium Density)
pins: 1, 2

## 39K_0201
designator R?, comment value 39K  Tol: 1%  Text1: 0201  (hidden comment: 39K_R0201_1%)
Resistor Chip SMD; Manufacturer: Various; Part Number: 39K 0201 1%; Watt: 31mW; Package: RESC0201X33N; EDM-PN: *; Text2: *; Reutech PN: *; SAAB PN: *; DCE Part No: *
footprint RESC0201X33N (Chip Resistor, 0201, 2-Leads, Body 0.6x0.3mm, IPC Medium Density)
pins: 1, 2

## 39K_0402
designator R?, comment value 39K  Tol: 1%  Text1: 0402  (hidden comment: 39K_R0402_1%)
Resistor Chip SMD; Manufacturer: Various; Part Number: 39K 0402 1%; Watt: 63mW; Package: RESC0402X40N; EDM-PN: *; Text2: *; Reutech PN: *; SAAB PN: *; DCE Part No: *
footprint RESC0402X40N (Chip Resistor, 0402, 2-Leads, Body 1.1x0.5mm, IPC Medium Density)
pins: 1, 2

## 39K_0603
designator R?, comment value 39K  Tol: 1%  Text1: 0603  (hidden comment: 39K_R0603_1%)
Resistor Chip SMD; Manufacturer: Various; Part Number: 39K 0603 1%; Watt: 100mW; Package: RESC0603X60N; EDM-PN: *; Text2: *; Reutech PN: *; SAAB PN: *; DCE Part No: *
footprint RESC0603X60N (Chip Resistor, 0603, 2-Leads, Body 1.6x0.8mm, IPC Medium Density)
pins: 1, 2

## 39K_0805
designator R?, comment value 39K  Tol: 1%  Text1: 0805  (hidden comment: 39K_R0805_1%)
Resistor Chip SMD; Manufacturer: Various; Part Number: 39K 0805 1%; Watt: 125mW; EDM-PN: RES188; Package: RESC0805X65N; Text2: *; Reutech PN: *; SAAB PN: *; DCE Part No: *
footprint RESC0805X65N (Chip Resistor, 0805, 2-Leads, Body 2.0x1.3mm, IPC Medium Density)
pins: 1, 2

## 39R_0402
designator R?, comment value 39R  Tol: 1%  Text1: 0402  (hidden comment: 39R_R0402_1%)
Resistor Chip SMD; Manufacturer: Various; Part Number: 39R 0402 1%; Watt: 63mW; Package: RESC0402X40N; EDM-PN: *; Text2: *; Reutech PN: *; SAAB PN: *; DCE Part No: *
footprint RESC0402X40N (Chip Resistor, 0402, 2-Leads, Body 1.1x0.5mm, IPC Medium Density)
pins: 1, 2

## 39R_0603
designator R?, comment value 39R  Tol: 1%  Text1: 0603  (hidden comment: 39R_R0603_1%)
Resistor Chip SMD; Manufacturer: Various; Part Number: 39R 0603 1%; Watt: 100mW; Package: RESC0603X60N; EDM-PN: *; Text2: *; Reutech PN: *; SAAB PN: *; DCE Part No: *
footprint RESC0603X60N (Chip Resistor, 0603, 2-Leads, Body 1.6x0.8mm, IPC Medium Density)
pins: 1, 2

## 39R_0805
designator R?, comment value 39R  Tol: 1%  Text1: 0805  (hidden comment: 39R_R0805_1%)
Resistor Chip SMD; Manufacturer: Various; Part Number: 39R 0805 1%; Watt: 125mW; Package: RESC0805X65N; EDM-PN: *; Text2: *; Reutech PN: *; SAAB PN: *; DCE Part No: *
footprint RESC0805X65N (Chip Resistor, 0805, 2-Leads, Body 2.0x1.3mm, IPC Medium Density)
pins: 1, 2

## 39R_1206
designator R?, comment value 39R  Tol: 1%  Text1: 1206  (hidden comment: 39R_R1206_1%)
Resistor Chip SMD; Manufacturer: Various; Part Number: 39R 1206 1%; Watt: 250mW; Package: RESC1206X71N; EDM-PN: *; Text2: *; Reutech PN: *; SAAB PN: *; DCE Part No: *
footprint RESC1206X71N (Chip Resistor, 1206, 2-Leads, Body 3.2x1.6mm, IPC Medium Density)
pins: 1, 2

## 39R_2010
designator R?, comment value 39R  Tol: 1%  Text1: 2010  (hidden comment: 39R_R2010_1%)
Resistor Chip SMD; Manufacturer: Various; Part Number: 39R 2010 1%; Watt: 500mW; Package: RESC2010X71N; EDM-PN: *; Text2: *; Reutech PN: *; SAAB PN: *; DCE Part No: *
footprint RESC2010X71N (Chip Resistor, 2010, 2-Leads, Body 5.0x2.5mm, IPC Medium Density)
pins: 1, 2

## 39R_2512
designator R?, comment value 39R  Watt: 1W  Text1: 2512  (hidden comment: 39R_R2512)
Resistor Thick Film; Manufacturer: Various; Part Number: 39R 2512 1%; Tol: 1%; Package: RESC2512X71N; EDM-PN: *; Text2: *; Reutech PN: *; SAAB PN: *; DCE Part No: *
footprint RESC2512X71N (Chip Resistor, 2512, 2-Leads, Body 6.3x3.2mm, IPC Medium Density)
pins: 1, 2

## 40K2_0402
designator R?, comment value 40K2  Tol: 1%  Text1: 0402  (hidden comment: 40K2_R0402_1%)
Resistor Chip SMD; Manufacturer: Various; Part Number: 40K2 0402 1%; Watt: 63mW; EDM-PN: RES1565; Package: RESC0402X40N; Text2: *; Reutech PN: *; SAAB PN: *; DCE Part No: *
footprint RESC0402X40N (Chip Resistor, 0402, 2-Leads, Body 1.1x0.5mm, IPC Medium Density)
pins: 1, 2

## 40K2_0603
designator R?, comment value 40K2  Tol: 1%  Text1: 0603  (hidden comment: 40K2_R0603_1%)
Resistor Chip SMD; Manufacturer: Various; Part Number: 40K2 0603 1%; Watt: 100mW; Package: RESC0603X60N; EDM-PN: *; Text2: *; Reutech PN: *; SAAB PN: *; DCE Part No: *
footprint RESC0603X60N (Chip Resistor, 0603, 2-Leads, Body 1.6x0.8mm, IPC Medium Density)
pins: 1, 2

## 40K2_0805
designator R?, comment value 40K2  Tol: 1%  Text1: 0805  (hidden comment: 40K2_R0805_1%)
Resistor Chip SMD; Manufacturer: Various; Part Number: 40K2 0805 1%; Watt: 125mW; Package: RESC0805X65N; EDM-PN: *; Text2: *; Reutech PN: *; SAAB PN: *; DCE Part No: *
footprint RESC0805X65N (Chip Resistor, 0805, 2-Leads, Body 2.0x1.3mm, IPC Medium Density)
pins: 1, 2

## 40K2_1206
designator R?, comment value 40K2  Tol: 1%  Text1: 1206  (hidden comment: 40K2_R1206_1%)
Resistor Chip SMD; Manufacturer: Various; Part Number: 40K2 1206 1%; Watt: 250mW; Package: RESC1206X71N; EDM-PN: *; Text2: *; Reutech PN: *; SAAB PN: *; DCE Part No: *
footprint RESC1206X71N (Chip Resistor, 1206, 2-Leads, Body 3.2x1.6mm, IPC Medium Density)
pins: 1, 2

## 40R2_0402
designator R?, comment value 40R2  Tol: 1%  Text1: 0402  (hidden comment: 40R2_R0402_1%)
Resistor Chip SMD; Manufacturer: Various; Part Number: 40R2 0402 1%; Watt: 63mW; Package: RESC0402X40N; EDM-PN: *; Text2: *; Reutech PN: *; SAAB PN: *; DCE Part No: *
footprint RESC0402X40N (Chip Resistor, 0402, 2-Leads, Body 1.1x0.5mm, IPC Medium Density)
pins: 1, 2

## 40R2_0603
designator R?, comment value 40R2  Tol: 1%  Text1: 0603  (hidden comment: 40R2_R0603_1%)
Resistor Chip SMD; Manufacturer: Various; Part Number: 40R2 0603 1%; Watt: 100mW; Package: RESC0603X60N; EDM-PN: *; Text2: *; Reutech PN: *; SAAB PN: *; DCE Part No: *
footprint RESC0603X60N (Chip Resistor, 0603, 2-Leads, Body 1.6x0.8mm, IPC Medium Density)
pins: 1, 2

## 40R2_0805
designator R?, comment value 40R2  Tol: 1%  Text1: 0805  (hidden comment: 40R2_R0805_1%)
Resistor Chip SMD; Manufacturer: Various; Part Number: 40R2 0805 1%; Watt: 125mW; Package: RESC0805X65N; EDM-PN: *; Text2: *; Reutech PN: *; SAAB PN: *; DCE Part No: *
footprint RESC0805X65N (Chip Resistor, 0805, 2-Leads, Body 2.0x1.3mm, IPC Medium Density)
pins: 1, 2

## 40R2_1206
designator R?, comment value 40R2  Tol: 1%  Text1: 1206  (hidden comment: 40R2_R1206_1%)
Resistor Chip SMD; Manufacturer: Various; Part Number: 40R2 1206 1%; Watt: 250mW; Package: RESC1206X71N; EDM-PN: *; Text2: *; Reutech PN: *; SAAB PN: *; DCE Part No: *
footprint RESC1206X71N (Chip Resistor, 1206, 2-Leads, Body 3.2x1.6mm, IPC Medium Density)
pins: 1, 2

## 41K2_0402
designator R?, comment value 41K2  Tol: 1%  Text1: 0402  (hidden comment: 41K2_R0402_1%)
Resistor Chip SMD; Manufacturer: Various; Part Number: 41K2 0402 1%; Watt: 63mW; Package: RESC0402X40N; EDM-PN: *; Text2: *; Reutech PN: *; SAAB PN: *; DCE Part No: *
footprint RESC0402X40N (Chip Resistor, 0402, 2-Leads, Body 1.1x0.5mm, IPC Medium Density)
pins: 1, 2

## 41K2_0603
designator R?, comment value 41K2  Tol: 1%  Text1: 0603  (hidden comment: 41K2_R0603_1%)
Resistor Chip SMD; Manufacturer: Various; Part Number: 41K2 0603 1%; Watt: 100mW; Package: RESC0603X60N; EDM-PN: *; Text2: *; Reutech PN: *; SAAB PN: *; DCE Part No: *
footprint RESC0603X60N (Chip Resistor, 0603, 2-Leads, Body 1.6x0.8mm, IPC Medium Density)
pins: 1, 2

## 41K2_0805
designator R?, comment value 41K2  Tol: 1%  Text1: 0805  (hidden comment: 41K2_R0805_1%)
Resistor Chip SMD; Manufacturer: Various; Part Number: 41K2 0805 1%; Watt: 125mW; Package: RESC0805X65N; EDM-PN: *; Text2: *; Reutech PN: *; SAAB PN: *; DCE Part No: *
footprint RESC0805X65N (Chip Resistor, 0805, 2-Leads, Body 2.0x1.3mm, IPC Medium Density)
pins: 1, 2

## 42K2_0402
designator R?, comment value 42K2  Tol: 1%  Text1: 0402  (hidden comment: 42K2_R0402_1%)
Resistor Chip SMD; Manufacturer: Various; Part Number: 42K2 0402 1%; Watt: 63mW; Package: RESC0402X40N; EDM-PN: *; Text2: *; Reutech PN: *; SAAB PN: *; DCE Part No: *
footprint RESC0402X40N (Chip Resistor, 0402, 2-Leads, Body 1.1x0.5mm, IPC Medium Density)
pins: 1, 2

## 42K2_0603
designator R?, comment value 42K2  Tol: 1%  Text1: 0603  (hidden comment: 42K2_R0603_1%)
Resistor Chip SMD; Manufacturer: Various; Part Number: 42K2 0603 1%; Watt: 100mW; Package: RESC0603X60N; EDM-PN: *; Text2: *; Reutech PN: *; SAAB PN: *; DCE Part No: *
footprint RESC0603X60N (Chip Resistor, 0603, 2-Leads, Body 1.6x0.8mm, IPC Medium Density)
pins: 1, 2

## 42K2_0805
designator R?, comment value 42K2  Tol: 1%  Text1: 0805  (hidden comment: 42K2_R0805_1%)
Resistor Chip SMD; Manufacturer: Various; Part Number: 42K2 0805 1%; Watt: 125mW; Package: RESC0805X65N; EDM-PN: *; Text2: *; Reutech PN: *; SAAB PN: *; DCE Part No: *
footprint RESC0805X65N (Chip Resistor, 0805, 2-Leads, Body 2.0x1.3mm, IPC Medium Density)
pins: 1, 2

## 43K2_0402
designator R?, comment value 43K2  Tol: 1%  Text1: 0402  (hidden comment: 43K2_R0402_1%)
Resistor Chip SMD; Manufacturer: Various; Part Number: 43K2 0402 1%; Watt: 63mW; Package: RESC0402X40N; EDM-PN: *; Text2: *; Reutech PN: *; SAAB PN: *; DCE Part No: *
footprint RESC0402X40N (Chip Resistor, 0402, 2-Leads, Body 1.1x0.5mm, IPC Medium Density)
pins: 1, 2

## 43K2_0603
designator R?, comment value 43K2  Tol: 1%  Text1: 0603  (hidden comment: 43K2_R0603_1%)
Resistor Chip SMD; Manufacturer: Various; Part Number: 43K2 0603 1%; Watt: 100mW; Package: RESC0603X60N; EDM-PN: *; Text2: *; Reutech PN: *; SAAB PN: *; DCE Part No: *
footprint RESC0603X60N (Chip Resistor, 0603, 2-Leads, Body 1.6x0.8mm, IPC Medium Density)
pins: 1, 2

## 43K2_0805
designator R?, comment value 43K2  Tol: 1%  Text1: 0805  (hidden comment: 43K2_R0805_1%)
Resistor Chip SMD; Manufacturer: Various; Part Number: 43K2 0805 1%; Watt: 125mW; Package: RESC0805X65N; EDM-PN: *; Text2: *; Reutech PN: *; SAAB PN: *; DCE Part No: *
footprint RESC0805X65N (Chip Resistor, 0805, 2-Leads, Body 2.0x1.3mm, IPC Medium Density)
pins: 1, 2

## 43K_0201
designator R?, comment value 43K  Tol: 1%  Text1: 0201  (hidden comment: 43K_R0201_1%)
Resistor Chip SMD; Manufacturer: Various; Part Number: 43K 0201 1%; Watt: 31mW; Package: RESC0201X33N; EDM-PN: *; Text2: *; Reutech PN: *; SAAB PN: *; DCE Part No: *
footprint RESC0201X33N (Chip Resistor, 0201, 2-Leads, Body 0.6x0.3mm, IPC Medium Density)
pins: 1, 2

## 43K_0402
designator R?, comment value 43K  Tol: 1%  Text1: 0402  (hidden comment: 43K_R0402_1%)
Resistor Chip SMD; Manufacturer: Various; Part Number: 43K 0402 1%; DCE Part No: 8154; Watt: 63mW; Package: RESC0402X40N; EDM-PN: *; Text2: *; Reutech PN: *; SAAB PN: *
footprint RESC0402X40N (Chip Resistor, 0402, 2-Leads, Body 1.1x0.5mm, IPC Medium Density)
pins: 1, 2

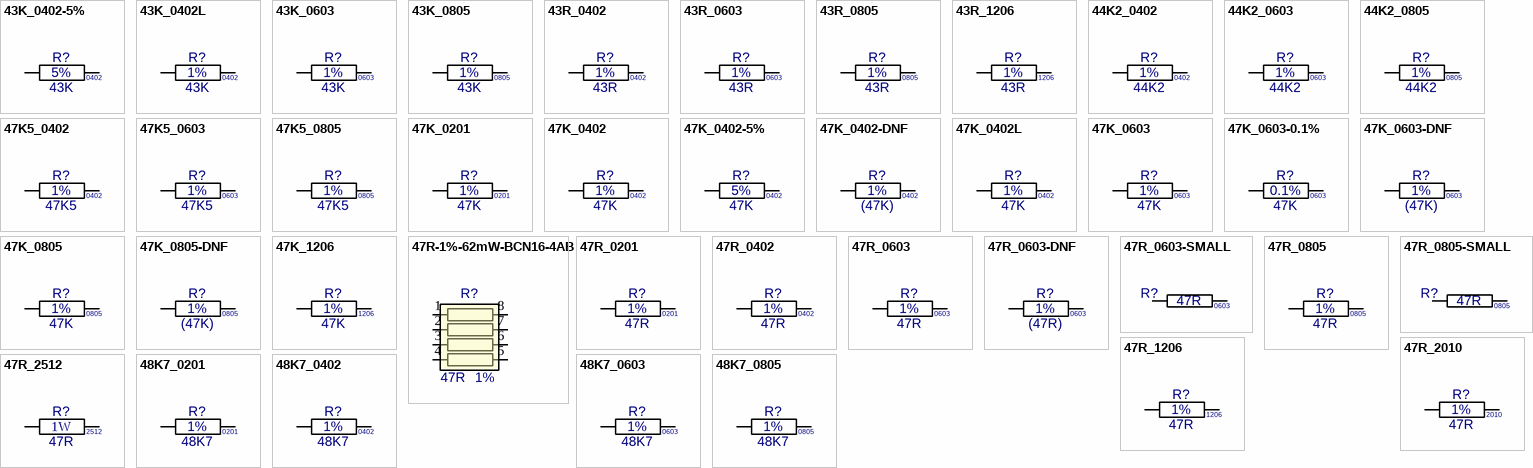
[diagram p33: symbols 43K_0402-5% to 48K7_0805]

## 43K_0402-5%
designator R?, comment value 43K  Tol: 5%  Text1: 0402  (hidden comment: 43K_R0402_5%)
Resistor Chip SMD; Manufacturer: Various; Part Number: 43K 0402 5%; Watt: 63mW; Package: RESC0402X40N; EDM-PN: *; Text2: *; Reutech PN: *; SAAB PN: *; DCE Part No: *
footprint RESC0402X40N (Chip Resistor, 0402, 2-Leads, Body 1.1x0.5mm, IPC Medium Density)
pins: 1, 2

## 43K_0402L
designator R?, comment value 43K  Tol: 1%  Text1: 0402  (hidden comment: 43K_R0402_1%)
Resistor Chip SMD; Manufacturer: Various; Part Number: 43K 0402 1%; DCE Part No: 8154; Watt: 63mW; Package: RESC0402X40L; EDM-PN: *; Text2: *; Reutech PN: *; SAAB PN: *
footprint RESC0402X40L (Chip Resistor, 0402, 2-Leads, Body 1.1x0.5mm, IPC High Density)
pins: 1, 2

## 43K_0603
designator R?, comment value 43K  Tol: 1%  Text1: 0603  (hidden comment: 43K_R0603_1%)
Resistor Chip SMD; Manufacturer: Various; Part Number: 43K 0603 1%; Watt: 100mW; Package: RESC0603X60N; EDM-PN: *; Text2: *; Reutech PN: *; SAAB PN: *; DCE Part No: *
footprint RESC0603X60N (Chip Resistor, 0603, 2-Leads, Body 1.6x0.8mm, IPC Medium Density)
pins: 1, 2

## 43K_0805
designator R?, comment value 43K  Tol: 1%  Text1: 0805  (hidden comment: 43K_R0805_1%)
Resistor Chip SMD; Manufacturer: Various; Part Number: 43K 0805 1%; Watt: 125mW; Package: RESC0805X65N; EDM-PN: *; Text2: *; Reutech PN: *; SAAB PN: *; DCE Part No: *
footprint RESC0805X65N (Chip Resistor, 0805, 2-Leads, Body 2.0x1.3mm, IPC Medium Density)
pins: 1, 2

## 43R_0402
designator R?, comment value 43R  Tol: 1%  Text1: 0402  (hidden comment: 43R_R0402_1%)
Resistor Chip SMD; Manufacturer: Various; Part Number: 43R 0402 1%; Watt: 63mW; Package: RESC0402X40N; EDM-PN: *; Text2: *; Reutech PN: *; SAAB PN: *; DCE Part No: *
footprint RESC0603X60N (Chip Resistor, 0603, 2-Leads, Body 1.6x0.8mm, IPC Medium Density)
pins: 1, 2

## 43R_0603
designator R?, comment value 43R  Tol: 1%  Text1: 0603  (hidden comment: 43R_R0603_1%)
Resistor Chip SMD; Manufacturer: Various; Part Number: 43R 0603 1%; Watt: 100mW; Package: RESC0603X60N; EDM-PN: *; Text2: *; Reutech PN: *; SAAB PN: *; DCE Part No: *
footprint RESC0603X60N (Chip Resistor, 0603, 2-Leads, Body 1.6x0.8mm, IPC Medium Density)
pins: 1, 2

## 43R_0805
designator R?, comment value 43R  Tol: 1%  Text1: 0805  (hidden comment: 43R_R0805_1%)
Resistor Chip SMD; Manufacturer: Various; Part Number: 43R 0805 1%; Watt: 125mW; Package: RESC0805X65N; EDM-PN: *; Text2: *; Reutech PN: *; SAAB PN: *; DCE Part No: *
footprint RESC0805X65N (Chip Resistor, 0805, 2-Leads, Body 2.0x1.3mm, IPC Medium Density)
pins: 1, 2

## 43R_1206
designator R?, comment value 43R  Tol: 1%  Text1: 1206  (hidden comment: 43R_R1206_1%)
Resistor Chip SMD; Manufacturer: Various; Part Number: 43R 1206 1%; Watt: 250mW; Package: RESC1206X71N; EDM-PN: *; Text2: *; Reutech PN: *; SAAB PN: *; DCE Part No: *
footprint RESC1206X71N (Chip Resistor, 1206, 2-Leads, Body 3.2x1.6mm, IPC Medium Density)
pins: 1, 2

## 44K2_0402
designator R?, comment value 44K2  Tol: 1%  Text1: 0402  (hidden comment: 44K2_R0402_1%)
Resistor Chip SMD; Manufacturer: Various; Part Number: 44K2 0402 1%; Watt: 63mW; Package: RESC0402X40N; EDM-PN: *; Text2: *; Reutech PN: *; SAAB PN: *; DCE Part No: *
footprint RESC0402X40N (Chip Resistor, 0402, 2-Leads, Body 1.1x0.5mm, IPC Medium Density)
pins: 1, 2

## 44K2_0603
designator R?, comment value 44K2  Tol: 1%  Text1: 0603  (hidden comment: 44K2_R0603_1%)
Resistor Chip SMD; Manufacturer: Various; Part Number: 44K2 0603 1%; Watt: 100mW; Package: RESC0603X60N; EDM-PN: *; Text2: *; Reutech PN: *; SAAB PN: *; DCE Part No: *
footprint RESC0603X60N (Chip Resistor, 0603, 2-Leads, Body 1.6x0.8mm, IPC Medium Density)
pins: 1, 2

## 44K2_0805
designator R?, comment value 44K2  Tol: 1%  Text1: 0805  (hidden comment: 44K2_R0805_1%)
Resistor Chip SMD; Manufacturer: Various; Part Number: 44K2 0805 1%; Watt: 125mW; Package: RESC0805X65N; EDM-PN: *; Text2: *; Reutech PN: *; SAAB PN: *; DCE Part No: *
footprint RESC0805X65N (Chip Resistor, 0805, 2-Leads, Body 2.0x1.3mm, IPC Medium Density)
pins: 1, 2

## 47K5_0402
designator R?, comment value 47K5  Tol: 1%  Text1: 0402  (hidden comment: 47K5_R0402_1%)
Resistor Chip SMD; Manufacturer: Various; Part Number: 47K5 0402 1%; Watt: 63mW; Package: RESC0402X40N; EDM-PN: *; Text2: *; Reutech PN: *; SAAB PN: *; DCE Part No: *
footprint RESC0402X40N (Chip Resistor, 0402, 2-Leads, Body 1.1x0.5mm, IPC Medium Density)
pins: 1, 2

## 47K5_0603
designator R?, comment value 47K5  Tol: 1%  Text1: 0603  (hidden comment: 47K5_R0603_1%)
Resistor Chip SMD; Manufacturer: Various; Part Number: 47K5 0603 1%; Watt: 100mW; Package: RESC0603X60N; EDM-PN: *; Text2: *; Reutech PN: *; SAAB PN: *; DCE Part No: *
footprint RESC0603X60N (Chip Resistor, 0603, 2-Leads, Body 1.6x0.8mm, IPC Medium Density)
pins: 1, 2

## 47K5_0805
designator R?, comment value 47K5  Tol: 1%  Text1: 0805  (hidden comment: 47K5_R0805_1%)
Resistor Chip SMD; Manufacturer: Various; Part Number: 47K5 0805 1%; Watt: 125mW; Package: RESC0805X65N; EDM-PN: *; Text2: *; Reutech PN: *; SAAB PN: *; DCE Part No: *
footprint RESC0805X65N (Chip Resistor, 0805, 2-Leads, Body 2.0x1.3mm, IPC Medium Density)
pins: 1, 2

## 47K_0201
designator R?, comment value 47K  Tol: 1%  Text1: 0201  (hidden comment: 47K_R0201_1%)
Resistor Chip SMD; Manufacturer: Various; Part Number: 47K 0201 1%; Watt: 31mW; Package: RESC0201X33N; EDM-PN: *; Text2: *; Reutech PN: *; SAAB PN: *; DCE Part No: *
footprint RESC0201X33N (Chip Resistor, 0201, 2-Leads, Body 0.6x0.3mm, IPC Medium Density)
pins: 1, 2

## 47K_0402
designator R?, comment value 47K  Tol: 1%  Text1: 0402  (hidden comment: 47K_R0402_1%)
Resistor Chip SMD; Manufacturer: Various; Part Number: 47K 0402 1%; DCE Part No: 7152; Watt: 63mW; EDM-PN: RES661; Package: RESC0402X40N; Text2: *; Reutech PN: *; SAAB PN: *
footprint RESC0402X40N (Chip Resistor, 0402, 2-Leads, Body 1.1x0.5mm, IPC Medium Density)
pins: 1, 2

## 47K_0402-5%
designator R?, comment value 47K  Tol: 5%  Text1: 0402  (hidden comment: 47K_R0402_5%)
Resistor Chip SMD; Manufacturer: Various; Part Number: 47K 0402 5%; Watt: 63mW; Package: RESC0402X40N; EDM-PN: *; Text2: *; Reutech PN: *; SAAB PN: *; DCE Part No: *
footprint RESC0402X40N (Chip Resistor, 0402, 2-Leads, Body 1.1x0.5mm, IPC Medium Density)
pins: 1, 2

## 47K_0402-DNF
designator R?, comment value (47K)  Tol: 1%  Text1: 0402  (hidden comment: 47K_R0402_1%)
Resistor Chip SMD - Do not Fit; Manufacturer: Various; Part Number: DNF - 47K 0402 1%; Watt: 63mW; Package: RESC0402X40N; EDM-PN: *; Text2: *; Reutech PN: *; SAAB PN: *; DCE Part No: *
footprint RESC0402X40N (Chip Resistor, 0402, 2-Leads, Body 1.1x0.5mm, IPC Medium Density)
pins: 1, 2

## 47K_0402L
designator R?, comment value 47K  Tol: 1%  Text1: 0402  (hidden comment: 47K_R0402_1%)
Resistor Chip SMD; Manufacturer: Various; Part Number: 47K 0402 1%; DCE Part No: 7152; Watt: 63mW; EDM-PN: RES661; Package: RESC0402X40L; Text2: *; Reutech PN: *; SAAB PN: *
footprint RESC0402X40L (Chip Resistor, 0402, 2-Leads, Body 1.1x0.5mm, IPC High Density)
pins: 1, 2

## 47K_0603
designator R?, comment value 47K  Tol: 1%  Text1: 0603  (hidden comment: 47K_R0603_1%)
Resistor Chip SMD; Manufacturer: Various; Part Number: 47K 0603 1%; Watt: 100mW; EDM-PN: RES128; Package: RESC0603X60N; Text2: *; Reutech PN: 5905-93-4702; SAAB PN: *; DCE Part No: *
footprint RESC0603X60N (Chip Resistor, 0603, 2-Leads, Body 1.6x0.8mm, IPC Medium Density)
pins: 1, 2

## 47K_0603-0.1%
designator R?, comment value 47K  Tol: 0.1%  Text1: 0603  (hidden comment: 47K_R0603_0.1%)
Resistor Chip SMD; Manufacturer: Various; Part Number: 47K 0603 0.1%; Watt: 100mW; Package: RESC0603X60N; EDM-PN: *; Text2: *; Reutech PN: *; SAAB PN: *; DCE Part No: *
footprint RESC0603X60N (Chip Resistor, 0603, 2-Leads, Body 1.6x0.8mm, IPC Medium Density)
pins: 1, 2

## 47K_0603-DNF
designator R?, comment value (47K)  Tol: 1%  Text1: 0603  (hidden comment: 47K_R0603_1%-DNF)
Resistor Chip SMD - Do not Fit; Manufacturer: Various; Part Number: DNF - 47K 0603 1%; Watt: 100mW; Package: RESC0603X60N; Text2: *; Reutech PN: 5905-93-4702; SAAB PN: *; DCE Part No: *
footprint RESC0603X60N (Chip Resistor, 0603, 2-Leads, Body 1.6x0.8mm, IPC Medium Density)
pins: 1, 2

## 47K_0805
designator R?, comment value 47K  Tol: 1%  Text1: 0805  (hidden comment: 47K_R0805_1%)
Resistor Chip SMD; Manufacturer: Various; Part Number: 47K 0805 1%; Watt: 125mW; EDM-PN: RES21; SAAB PN: 1ACF00208AEA; Package: RESC0805X65N; Text2: *; Reutech PN: *; DCE Part No: *
footprint RESC0805X65N (Chip Resistor, 0805, 2-Leads, Body 2.0x1.3mm, IPC Medium Density)
pins: 1, 2

## 47K_0805-DNF
designator R?, comment value (47K)  Tol: 1%  Text1: 0805  (hidden comment: 47K_R0805_1%-DNF)
Resistor Chip SMD -  Do not Fit; Manufacturer: Various; Part Number: DNF - 47K 0805 1%; Watt: 125mW; EDM-PN: RES21; SAAB PN: 1ACF00208AEA; Package: RESC0805X65N; Text2: *; Reutech PN: *; DCE Part No: *
footprint RESC0805X65N (Chip Resistor, 0805, 2-Leads, Body 2.0x1.3mm, IPC Medium Density)
pins: 1, 2